# EAGLE library part BQ40Z60RHBT (library Battery Chargers)
Charger IC Lithium Ion/Polymer 32-VQFN (5x5) Manufacturer's datasheet <https://www.ti.com/lit/ds/symlink/bq40z60.pdf?HQS=TI-null-null-digikeymode-df-pf-null-wwe&ts=1594281261899>
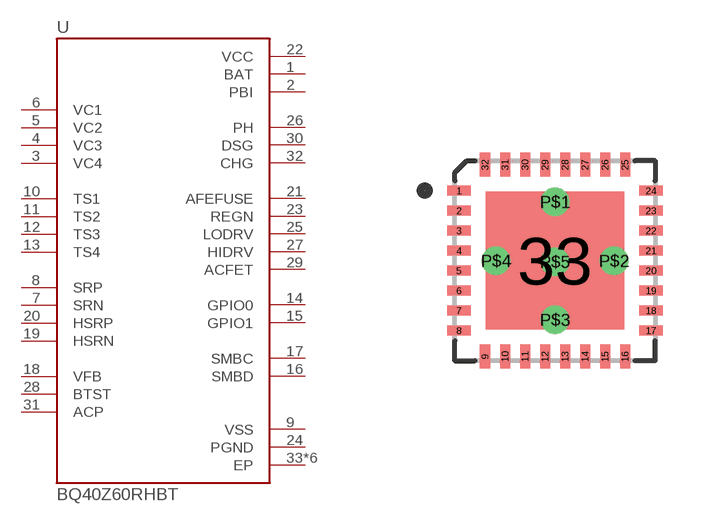
[diagram p25: symbol with the pads of BQ40Z60RHBT; footprint BQ40Z60RHBT]

Designator prefix U

## BQ40Z60RHBT (CREATED_BY: PCBLayout.com; DIGIKEY_PART_NUMBER: 296-38618-1-ND; MANUFACTURER: Texas Instruments; MPN: BQ40Z60RHBT; PACKAGE: 32-VQFN)  [BQ40Z60RHBT]
1  BAT  pwr
2  PBI  pwr
3  VC4  in
4  VC3  in
5  VC2  in
6  VC1  in
7  SRN  in
8  SRP  in
9  VSS  pwr
10  TS1  in
11  TS2  in
12  TS3  in
13  TS4  in
14  GPIO0
15  GPIO1
16  SMBD
17  SMBC
18  VFB  in
19  HSRN  in
20  HSRP  in
21  AFEFUSE  out
22  VCC  pwr
23  REGN  out
24  PGND  pwr
25  LODRV  out
26  PH
27  HIDRV  out
28  BTST  in
29  ACFET  out
30  DSG  out
31  ACP  in
32  CHG  out
33  EP  pwr
P$1  EP  pwr
P$2  EP  pwr
P$3  EP  pwr
P$4  EP  pwr
P$5  EP  pwr

## Footprint BQ40Z60RHBT (pad centres in mm)
smd 0.6 x 0.25: 1 -2.4,1.75; 2 -2.4,1.25; 3 -2.4,0.75; 4 -2.4,0.25; 5 -2.4,-0.25; 6 -2.4,-0.75; 7 -2.4,-1.25; 8 -2.4,-1.75; 17 2.4,-1.75; 18 2.4,-1.25; 19 2.4,-0.75; 20 2.4,-0.25; 21 2.4,0.25; 22 2.4,0.75; 23 2.4,1.25; 24 2.4,1.75
smd 0.25 x 0.6: 9 -1.75,-2.4; 10 -1.25,-2.4; 11 -0.75,-2.4; 12 -0.25,-2.4; 13 0.25,-2.4; 14 0.75,-2.4; 15 1.25,-2.4; 16 1.75,-2.4; 25 1.75,2.4; 26 1.25,2.4; 27 0.75,2.4; 28 0.25,2.4; 29 -0.25,2.4; 30 -0.75,2.4; 31 -1.25,2.4; 32 -1.75,2.4
smd 3.45 x 3.45: 33 0,0
drill 0.2 pad 0.5: P$1 0,1.475; P$2 1.475,0; P$3 0,-1.475; P$4 -1.475,0; P$5 0,-0.025